# EAGLE library part EPF10K100-IO-* (library mita-akiba)
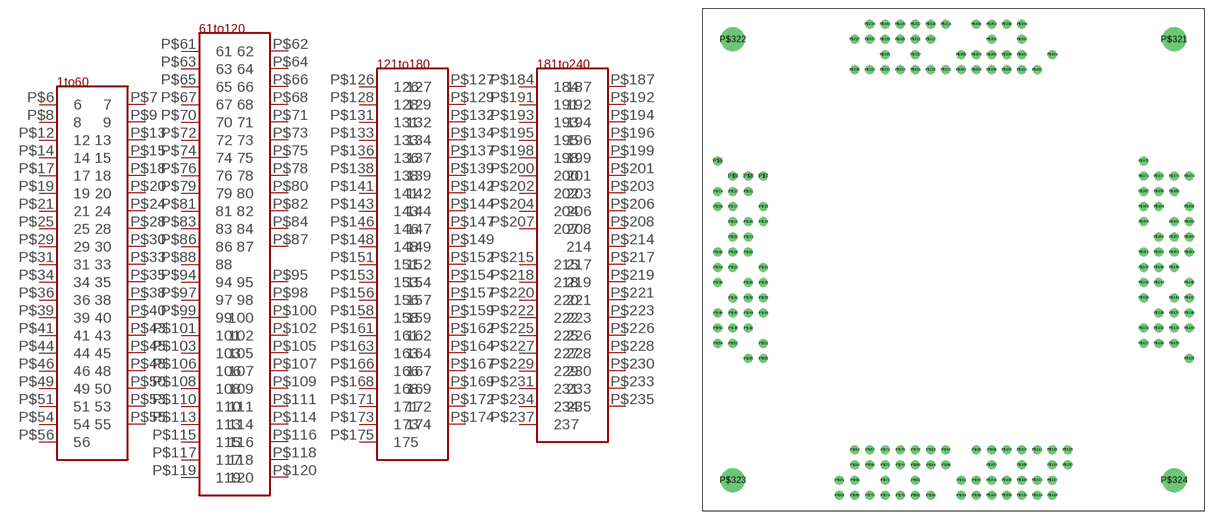
[diagram p12: symbol with the pads of EPF10K100A24IO; footprint EPF10K100A24IO]

Designator prefix -; gates -1=EPF10K100A-IO1 -3=EPF10K100A-IO3 G$1=EPF10K100A-IO4 G$2=EPF10K100A-IO2

## EPF10K100-IO-  [EPF10K100A24IO]
P$6  -1:6
P$7  -1:7
P$8  -1:8
P$9  -1:9
P$12  -1:12
P$13  -1:13
P$14  -1:14
P$15  -1:15
P$17  -1:17
P$18  -1:18
P$19  -1:19
P$20  -1:20
P$21  -1:21
P$24  -1:24
P$25  -1:25
P$28  -1:28
P$29  -1:29
P$30  -1:30
P$31  -1:31
P$33  -1:33
P$34  -1:34
P$35  -1:35
P$36  -1:36
P$38  -1:38
P$39  -1:39
P$40  -1:40
P$41  -1:41
P$43  -1:43
P$44  -1:44
P$45  -1:45
P$46  -1:46
P$48  -1:48
P$49  -1:49
P$50  -1:50
P$51  -1:51
P$53  -1:53
P$54  -1:54
P$55  -1:55
P$56  -1:56
P$61  G$2:61
P$62  G$2:62
P$63  G$2:63
P$64  G$2:64
P$65  G$2:65
P$66  G$2:66
P$67  G$2:67
P$68  G$2:68
P$70  G$2:70
P$71  G$2:71
P$72  G$2:72
P$73  G$2:73
P$74  G$2:74
P$75  G$2:75
P$76  G$2:76
P$78  G$2:78
P$79  G$2:79
P$80  G$2:80
P$81  G$2:81
P$82  G$2:82
P$83  G$2:83
P$84  G$2:84
P$86  G$2:86
P$87  G$2:87
P$88  G$2:88
P$94  G$2:94
P$95  G$2:95
P$97  G$2:97
P$98  G$2:98
P$99  G$2:99
P$100  G$2:100
P$101  G$2:101
P$102  G$2:102
P$103  G$2:103
P$105  G$2:105
P$106  G$2:106
P$107  G$2:107
P$108  G$2:108
P$109  G$2:109
P$110  G$2:110
P$111  G$2:111
P$113  G$2:113
P$114  G$2:114
P$115  G$2:115
P$116  G$2:116
P$117  G$2:117
P$118  G$2:118
P$119  G$2:119
P$120  G$2:120
P$126  -3:126
P$127  -3:127
P$128  -3:128
P$129  -3:129
P$131  -3:131
P$132  -3:132
P$133  -3:133
P$134  -3:134
P$136  -3:136
P$137  -3:137
P$138  -3:138
P$139  -3:139
P$141  -3:141
P$142  -3:142
P$143  -3:143
P$144  -3:144
P$146  -3:146
P$147  -3:147
P$148  -3:148
P$149  -3:149
P$151  -3:151
P$152  -3:152
P$153  -3:153
P$154  -3:154
P$156  -3:156
P$157  -3:157
P$158  -3:158
P$159  -3:159
P$161  -3:161
P$162  -3:162
P$163  -3:163
P$164  -3:164
P$166  -3:166
P$167  -3:167
P$168  -3:168
P$169  -3:169
P$171  -3:171
P$172  -3:172
P$173  -3:173
P$174  -3:174
P$175  -3:175
P$184  G$1:184
P$187  G$1:187
P$191  G$1:191
P$192  G$1:192
P$193  G$1:193
P$194  G$1:194
P$195  G$1:195
P$196  G$1:196
P$198  G$1:198
P$199  G$1:199
P$200  G$1:200
P$201  G$1:201
P$202  G$1:202
P$203  G$1:203
P$204  G$1:204
P$206  G$1:206
P$207  G$1:207
P$208  G$1:208
P$214  G$1:214
P$215  G$1:215
P$217  G$1:217
P$218  G$1:218
P$219  G$1:219
P$220  G$1:220
P$221  G$1:221
P$222  G$1:222
P$223  G$1:223
P$225  G$1:225
P$226  G$1:226
P$227  G$1:227
P$228  G$1:228
P$229  G$1:229
P$230  G$1:230
P$231  G$1:231
P$233  G$1:233
P$234  G$1:234
P$235  G$1:235
P$237  G$1:237

## Footprint EPF10K100A24IO (pad centres in mm)
FLEX10K100ARC240 User I/O
drill 0.9 pad 1.5: P$6 -39.37,16.51; P$7 -31.75,13.97; P$8 -34.29,13.97; P$9 -36.83,13.97; P$12 -34.29,11.43; P$13 -36.83,11.43; P$14 -39.37,11.43; P$15 -31.75,8.89; P$17 -36.83,8.89; P$18 -39.37,8.89; P$19 -31.75,6.35; P$20 -34.29,6.35; P$21 -36.83,6.35; P$24 -34.29,3.81; P$25 -36.83,3.81; P$28 -34.29,1.27; P$29 -36.83,1.27; P$30 -39.37,1.27; P$31 -31.75,-1.27; P$33 -36.83,-1.27; P$34 -39.37,-1.27; P$35 -31.75,-3.81; P$36 -34.29,-3.81; P$38 -39.37,-3.81; P$39 -31.75,-6.35; P$40 -34.29,-6.35; P$41 -36.83,-6.35; P$43 -31.75,-8.89; P$44 -34.29,-8.89; P$45 -36.83,-8.89; P$46 -39.37,-8.89; P$48 -34.29,-11.43; P$49 -36.83,-11.43; P$50 -39.37,-11.43; P$51 -31.75,-13.97; P$53 -36.83,-13.97; P$54 -39.37,-13.97; P$55 -31.75,-16.51; P$56 -34.29,-16.51; P$61 -19.05,-36.83; P$62 -19.05,-39.37; P$63 -16.51,-31.75; P$64 -16.51,-34.29; P$65 -16.51,-36.83; P$66 -16.51,-39.37; P$67 -13.97,-31.75; P$68 -13.97,-34.29; P$70 -13.97,-39.37; P$71 -11.43,-31.75; P$72 -11.43,-34.29; P$73 -11.43,-36.83; P$74 -11.43,-39.37; P$75 -8.89,-31.75; P$76 -8.89,-34.29; P$78 -8.89,-39.37; P$79 -6.35,-31.75; P$80 -6.35,-34.29; P$81 -6.35,-36.83; P$82 -6.35,-39.37; P$83 -3.81,-31.75; P$84 -3.81,-34.29; P$86 -3.81,-39.37; P$87 -1.27,-31.75; P$88 -1.27,-34.29; P$93 1.27,-36.83; P$94 1.27,-39.37; P$95 3.81,-31.75; P$97 3.81,-36.83; P$98 3.81,-39.37; P$99 6.35,-31.75; P$100 6.35,-34.29; P$101 6.35,-36.83; P$102 6.35,-39.37; P$103 8.89,-31.75; P$105 8.89,-36.83; P$106 8.89,-39.37; P$107 11.43,-31.75; P$108 11.43,-34.29; P$109 11.43,-36.83; P$110 11.43,-39.37; P$111 13.97,-31.75; P$113 13.97,-36.83; P$114 13.97,-39.37; P$115 16.51,-31.75; P$116 16.51,-34.29; P$117 16.51,-36.83; P$118 16.51,-39.37; P$119 19.05,-31.75; P$120 19.05,-34.29; P$126 39.37,-16.51; P$127 31.75,-13.97; P$128 34.29,-13.97; P$129 36.83,-13.97; P$131 31.75,-11.43; P$132 34.29,-11.43; P$133 36.83,-11.43; P$134 39.37,-11.43; P$136 34.29,-8.89; P$137 36.83,-8.89; P$138 39.37,-8.89; P$139 31.75,-6.35; P$141 36.83,-6.35; P$142 39.37,-6.35; P$143 31.75,-3.81; P$144 34.29,-3.81; P$146 39.37,-3.81; P$147 31.75,-1.27; P$148 34.29,-1.27; P$149 36.83,-1.27; P$151 31.75,1.27; P$152 34.29,1.27; P$153 36.83,1.27; P$154 39.37,1.27; P$156 34.29,3.81; P$157 36.83,3.81; P$158 39.37,3.81; P$159 31.75,6.35; P$161 36.83,6.35; P$162 39.37,6.35; P$163 31.75,8.89; P$164 34.29,8.89; P$166 39.37,8.89; P$167 31.75,11.43; P$168 34.29,11.43; P$169 36.83,11.43; P$171 31.75,13.97; P$172 34.29,13.97; P$173 36.83,13.97; P$174 39.37,13.97; P$175 31.75,16.51; P$184 16.51,34.29; P$187 13.97,31.75; P$191 11.43,31.75; P$192 11.43,34.29; P$193 11.43,36.83; P$194 11.43,39.37; P$195 8.89,31.75; P$196 8.89,34.29; P$198 8.89,39.37; P$199 6.35,31.75; P$200 6.35,34.29; P$201 6.35,36.83; P$202 6.35,39.37; P$203 3.81,31.75; P$204 3.81,34.29; P$206 3.81,39.37; P$207 1.27,31.75; P$208 1.27,34.29; P$211 -1.27,31.75; P$214 -1.27,39.37; P$215 -3.81,31.75; P$217 -3.81,36.83; P$218 -3.81,39.37; P$219 -6.35,31.75; P$220 -6.35,34.29; P$221 -6.35,36.83; P$222 -6.35,39.37; P$223 -8.89,31.75; P$225 -8.89,36.83; P$226 -8.89,39.37; P$227 -11.43,31.75; P$228 -11.43,34.29; P$229 -11.43,36.83; P$230 -11.43,39.37; P$231 -13.97,31.75; P$233 -13.97,36.83; P$234 -13.97,39.37; P$235 -16.51,31.75; P$237 -16.51,36.83
drill 3 pad 4: P$321 36.83,36.83; P$322 -36.83,36.83; P$323 -36.83,-36.83; P$324 36.83,-36.83